# Altium footprint library PESD3V3U1UL.PcbLib: 1 footprints
Each footprint in its own frame and in the unit in brackets; x right, y up, seen from the top. Pads: shape width x height; smd on the part's side, far side on the other; paste and mask are expansions set on the pad; w line width, h text height; cw(c..) or ccw(c..) is an arc to the next point about the centre after c.
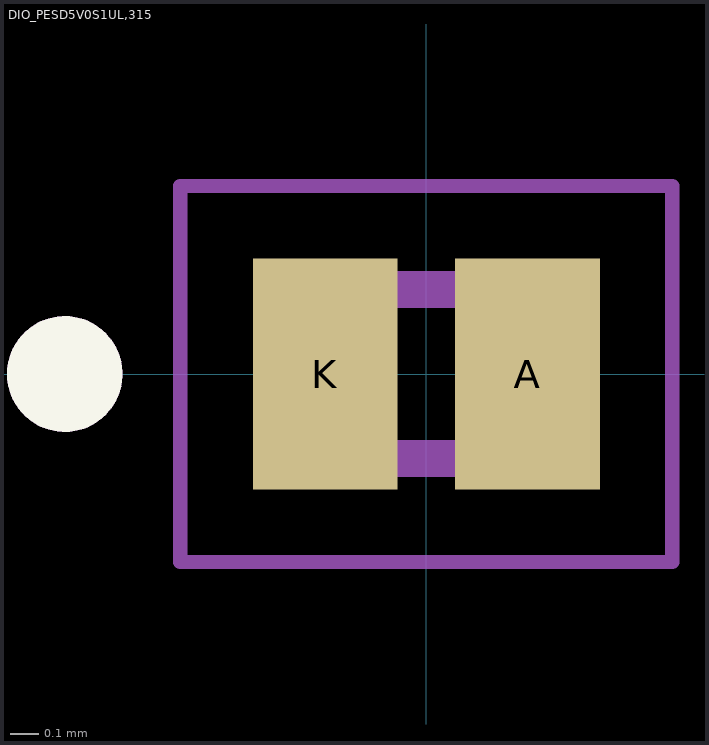
[diagram p0: the footprint, top view; thin cyan lines are the x and y axes]

## DIO_PESD5V0S1UL,315 [mm]
pads (2):
  rect 0.5x0.8 smd paste-0.1 mask+0: A(0.35,0) K(-0.35,0)
Top Overlay:
  circle w0.2: c-1.25,0 r0.1
Top Solder:
  drawing of 2 lines, arcs and shapes, not listed
Assembly Top:
  circle w0.2: c-1.25,0 r0.1
  lines w0.127: -0.493,-0.292 -0.493,0.292 0.493,0.292 0.493,-0.292 -0.493,-0.292
Courtyard Top:
  lines w0.05: -0.85,-0.65 -0.85,0.65 0.85,0.65 0.85,-0.65 -0.85,-0.65
3D body "step_temp.STEP": height 0.5, standoff 0, extent -0.493,-0.292 0.493,0.292